# EAGLE library part 10127720-241LF (library con-amphenol)
24 Positions Plug Connector 0.118" (3.00mm) Through Hole, Right Angle Tin
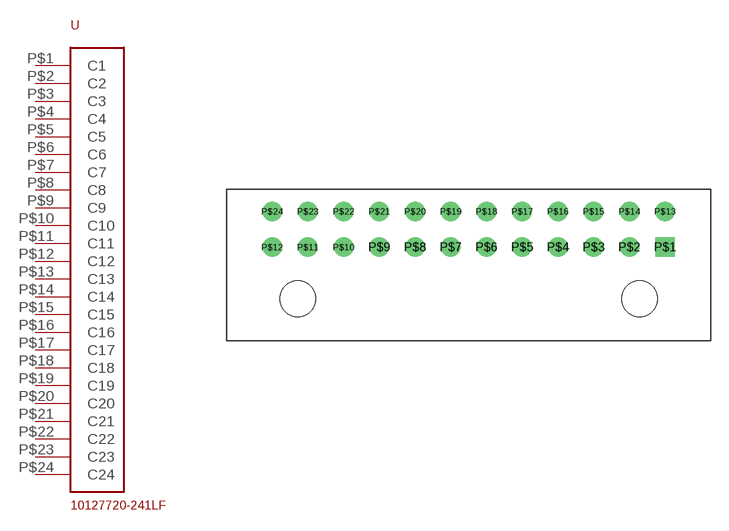
[diagram p12: symbol with the pads of 10127720-241LF; footprint 10127720-241LF]

Designator prefix -

## 10127720-241LF  [10127720-241LF]
P$1  C1  pas
P$2  C2  pas
P$3  C3  pas
P$4  C4  pas
P$5  C5  pas
P$6  C6  pas
P$7  C7  pas
P$8  C8  pas
P$9  C9  pas
P$10  C10  pas
P$11  C11  pas
P$12  C12  pas
P$13  C13  pas
P$14  C14  pas
P$15  C15  pas
P$16  C16  pas
P$17  C17  pas
P$18  C18  pas
P$19  C19  pas
P$20  C20  pas
P$21  C21  pas
P$22  C22  pas
P$23  C23  pas
P$24  C24  pas

## Footprint 10127720-241LF (pad centres in mm)
drill 1.1 pad 1.02 square: P$1 16.5,1.5
drill 1.1 pad 1.02: P$2 13.5,1.5; P$3 10.5,1.5; P$4 7.5,1.5; P$5 4.5,1.5; P$6 1.5,1.5; P$7 -1.5,1.5; P$8 -4.5,1.5; P$9 -7.5,1.5; P$10 -10.5,1.5; P$11 -13.5,1.5; P$12 -16.5,1.5; P$13 16.5,4.5; P$14 13.5,4.5; P$15 10.5,4.5; P$16 7.5,4.5; P$17 4.5,4.5; P$18 1.5,4.5; P$19 -1.5,4.5; P$20 -4.5,4.5; P$21 -7.5,4.5; P$22 -10.5,4.5; P$23 -13.5,4.5; P$24 -16.5,4.5
hole 3 at -14.35,-2.82
hole 3 at 14.35,-2.82